# Altium integrated library TSW-105-05-L-D.IntLib: 1 symbol
Pins are listed as number, name and electrical type; pins without a type are passive.

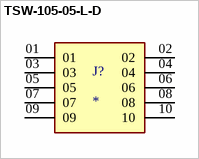
[diagram p0: symbol TSW-105-05-L-D]

## TSW-105-05-L-D
designator J?
MP: TSW-105-05-L-D; Package: None; Price: None; Value: *; Availability: Unavailable
footprint SAMTEC_TSW-105-05-L-D
footprint SAMTEC_TSW-105-05-L-D
pins: 01, 02, 03, 04, 05, 06, 07, 08, 09, 10